# Altium footprint library switch.PcbLib: 44 footprints (part 2 of 3)
Each footprint in its own frame and in the unit in brackets; x right, y up, seen from the top. Pads: shape width x height; smd on the part's side, far side on the other; paste and mask are expansions set on the pad; w line width, h text height; cw(c..) or ccw(c..) is an arc to the next point about the centre after c.
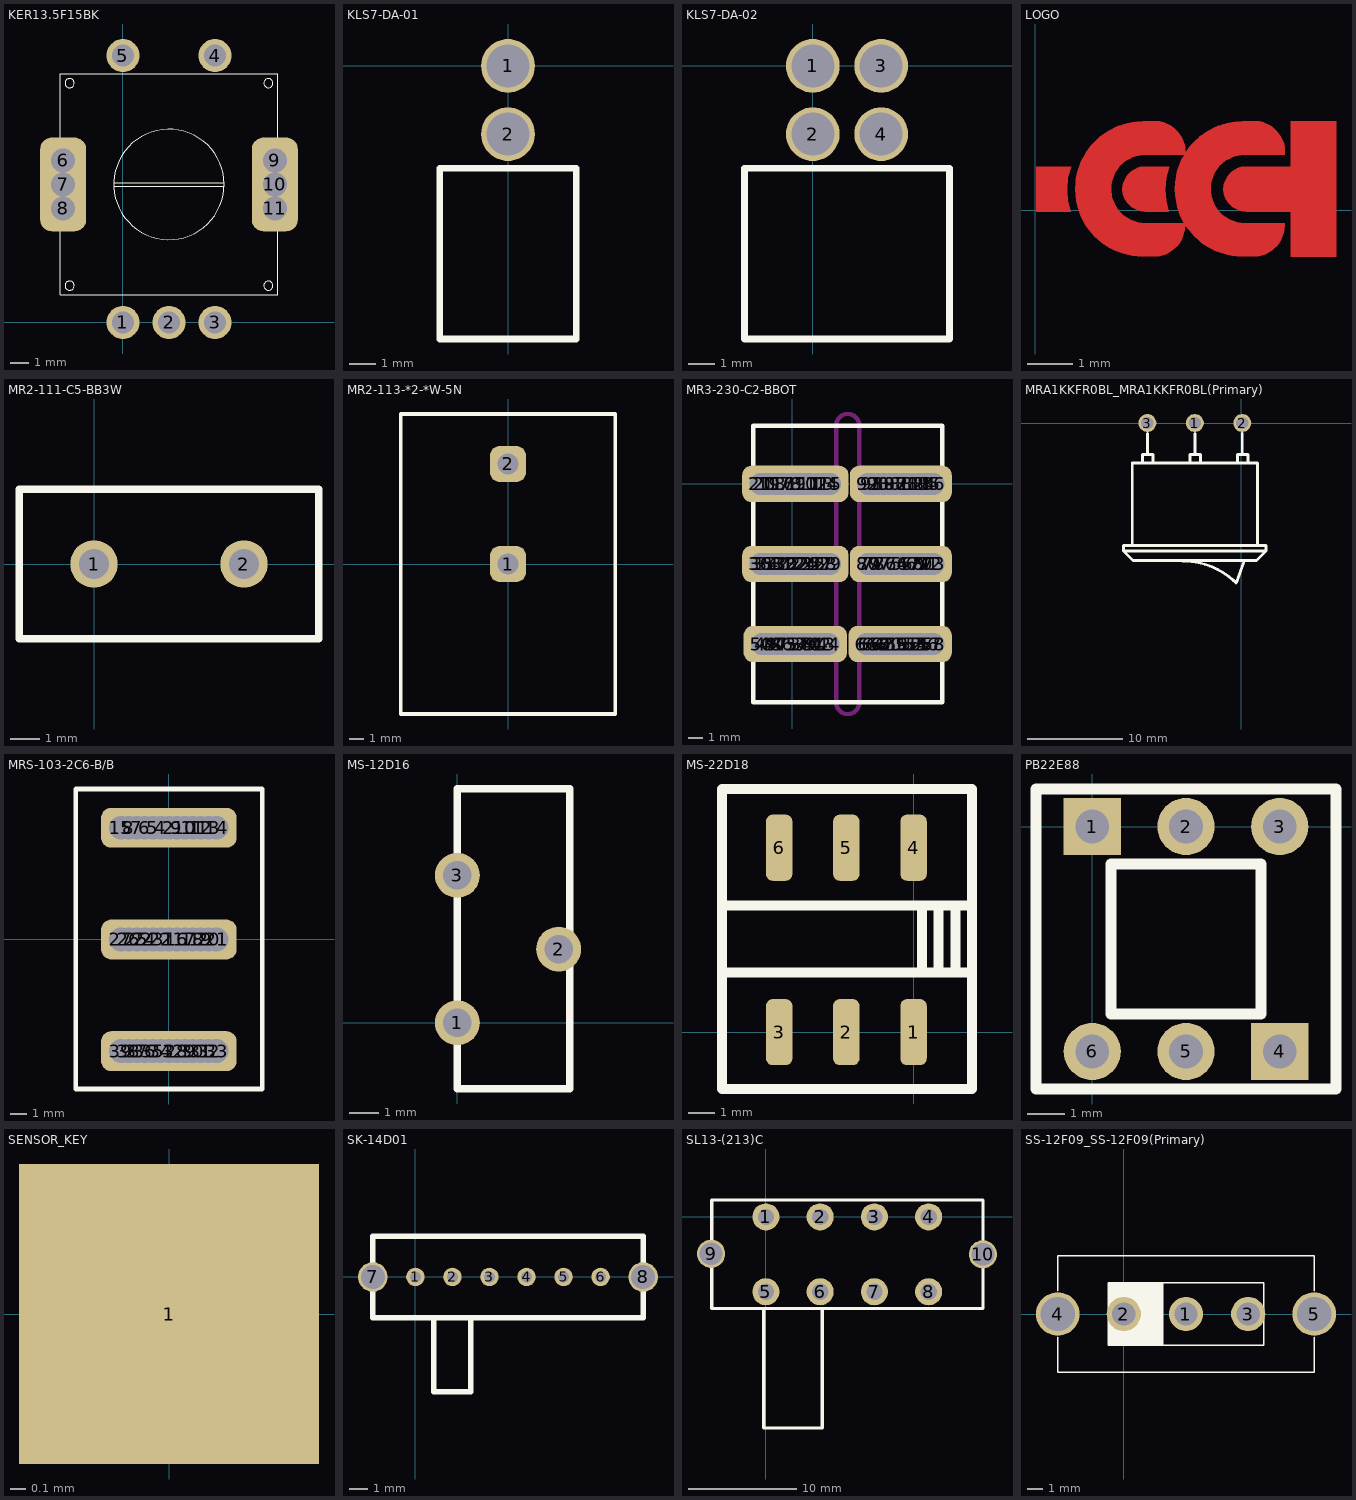
[diagram p1: the footprints below, top view; thin cyan lines are the x and y axes]

## KER13.5F15BK [mm]
pads (11):
  round 1.8 hole 1.2 unplated: 1(0,0) 2(2.5,0) 3(5,0) 4(5,14.5) 5(0,14.5)
  rrect50% 2.5x2.5 hole 1.3 unplated: 6(-3.25,8.8) 7(-3.25,7.5) 8(-3.25,6.2) 9(8.25,8.8) 10(8.25,7.5) 11(8.25,6.2)
Top Overlay:
  circle w0.025: c2.5,7.5 r3
  circle w0.025: c7.9,13 r0.25
  circle w0.025: c7.9,2 r0.25
  circle w0.025: c-2.9,13 r0.25
  circle w0.025: c-2.9,2 r0.25
  lines w0.025: -0.5,7.4 5.5,7.4 ; -0.5,7.6 5.5,7.6 ; -3.4,1.5 -3.4,7.5 -3.4,13.5 2.5,13.5 8.4,13.5 8.4,10.45 8.4,7.5 8.4,1.5 2.5,1.5 -3.4,1.5

## KLS7-DA-01 [mm]
pads (2):
  round 2 hole 1.6: 1(0,0) 2(0,-2.54)
Top Overlay:
  lines w0.254: -2.54,-10.16 -2.54,-3.81 2.54,-3.81 2.54,-10.16 -2.54,-10.16

## KLS7-DA-02 [mm]
pads (4):
  round 2 hole 1.6: 1(0,0) 2(0,-2.54) 3(2.54,0) 4(2.54,-2.54)
Top Overlay:
  lines w0.254: -2.54,-10.16 5.08,-10.16 5.08,-3.81 -2.54,-3.81 -2.54,-10.16

## LOGO [mm]
Top Layer:
  region: 0.795,0.967 0.255,0.967 0.155,0.967 0.085,0.967 0.015,0.967 0.015,0.717 0.015,0.707 0.015,0.457 0.015,0.017 0.015,-0.033 0.105,-0.033 0.185,-0.033 0.255,-0.033 0.785,-0.033 0.725,0.207 0.705,0.457 0.725,0.717
  region: 2.765,1.971 2.562,1.971 2.384,1.971 2.232,1.957 2.152,1.947 2.092,1.937 2.042,1.927 2.002,1.917 1.962,1.907 1.932,1.897 1.902,1.887 1.872,1.877 1.842,1.867 1.822,1.857 1.792,1.847 1.772,1.837 1.652,1.777 1.602,1.747 1.542,1.707 1.512,1.687 1.472,1.657 1.432,1.627 1.422,1.617 1.412,1.607 1.362,1.567 1.282,1.487 1.232,1.427 1.175,1.35 1.122,1.277 1.072,1.187 1.032,1.117 1.002,1.047 0.982,0.997 0.952,0.907 0.932,0.837 0.912,0.757 0.902,0.687 0.892,0.617 0.882,0.467 0.892,0.327 0.912,0.197 0.944,0.063 0.972,-0.033 1.01,-0.135 1.043,-0.201 1.122,-0.343 1.212,-0.463 1.312,-0.583 1.412,-0.673 1.482,-0.733 1.542,-0.773 1.622,-0.823 1.712,-0.873 1.772,-0.903 1.835,-0.927 1.934,-0.96 2.012,-0.983 2.052,-0.993 2.152,-1.013 2.264,-1.026 2.382,-1.033 2.689,-1.027 2.753,-1.027 2.842,-1.001 2.905,-0.976 2.956,-0.95 2.994,-0.925 3.032,-0.9 3.083,-0.861 3.159,-0.785 3.223,-0.696 3.248,-0.646 3.273,-0.595 3.286,-0.557 3.299,-0.506 3.311,-0.455 3.324,-0.29 2.435,-0.29 2.346,-0.277 2.27,-0.265 2.181,-0.239 2.118,-0.214 1.953,-0.112 1.851,-0.011 1.775,0.104 1.724,0.218 1.711,0.256 1.699,0.32 1.686,0.447 1.686,0.536 1.699,0.624 1.724,0.713 1.737,0.751 1.749,0.777 1.762,0.802 1.775,0.828 1.787,0.853 1.838,0.929 1.876,0.98 1.914,1.018 1.94,1.044 1.991,1.082 2.029,1.107 2.08,1.132 2.105,1.145 2.156,1.171 2.194,1.183 2.232,1.196 2.283,1.209 2.346,1.221 2.397,1.234 2.41,1.234 2.435,1.234 3.324,1.234 3.324,1.399 3.311,1.463 3.299,1.501 3.273,1.564 3.248,1.615 3.197,1.691 3.146,1.755 3.083,1.818 3.032,1.856 2.969,1.894 2.943,1.907 2.892,1.933 2.854,1.945
  region: 2.973,0.967 2.433,0.967 2.333,0.957 2.263,0.937 2.223,0.917 2.183,0.897 2.163,0.887 2.133,0.867 2.103,0.837 2.083,0.817 2.073,0.807 2.063,0.797 2.053,0.787 2.009,0.723 1.993,0.697 1.983,0.677 1.973,0.657 1.953,0.607 1.943,0.558 1.933,0.467 1.943,0.36 1.976,0.261 2.042,0.162 2.083,0.117 2.108,0.096 2.141,0.063 2.203,0.027 2.273,-0.003 2.343,-0.023 2.433,-0.033 2.963,-0.033 2.903,0.207 2.883,0.457 2.903,0.717
  region: 4.975,1.971 4.772,1.971 4.594,1.971 4.442,1.957 4.362,1.947 4.302,1.937 4.252,1.927 4.212,1.917 4.172,1.907 4.142,1.897 4.112,1.887 4.082,1.877 4.052,1.867 4.032,1.857 4.002,1.847 3.982,1.837 3.862,1.777 3.812,1.747 3.752,1.707 3.722,1.687 3.682,1.657 3.642,1.627 3.632,1.617 3.622,1.607 3.572,1.567 3.492,1.487 3.442,1.427 3.385,1.35 3.332,1.277 3.282,1.187 3.242,1.117 3.212,1.047 3.192,0.997 3.162,0.907 3.142,0.837 3.122,0.757 3.112,0.687 3.102,0.617 3.092,0.467 3.102,0.327 3.122,0.197 3.154,0.063 3.182,-0.033 3.22,-0.135 3.253,-0.201 3.332,-0.343 3.422,-0.463 3.522,-0.583 3.622,-0.673 3.692,-0.733 3.752,-0.773 3.832,-0.823 3.922,-0.873 3.982,-0.903 4.045,-0.927 4.144,-0.96 4.222,-0.983 4.262,-0.993 4.362,-1.013 4.474,-1.026 4.592,-1.033 4.899,-1.027 4.962,-1.027 5.051,-1.001 5.115,-0.976 5.166,-0.95 5.204,-0.925 5.242,-0.9 5.293,-0.861 5.369,-0.785 5.432,-0.696 5.458,-0.646 5.483,-0.595 5.496,-0.557 5.509,-0.506 5.521,-0.455 5.534,-0.29 4.645,-0.29 4.556,-0.277 4.48,-0.265 4.391,-0.239 4.327,-0.214 4.162,-0.112 4.061,-0.011 3.985,0.104 3.934,0.218 3.921,0.256 3.908,0.32 3.896,0.447 3.896,0.536 3.908,0.624 3.934,0.713 3.946,0.751 3.959,0.777 3.972,0.802 3.985,0.828 3.997,0.853 4.048,0.929 4.086,0.98 4.124,1.018 4.15,1.044 4.2,1.082 4.239,1.107 4.289,1.132 4.315,1.145 4.366,1.171 4.404,1.183 4.442,1.196 4.493,1.209 4.556,1.221 4.607,1.234 4.62,1.234 4.645,1.234 5.534,1.234 5.534,1.399 5.521,1.463 5.509,1.501 5.483,1.564 5.458,1.615 5.407,1.691 5.356,1.755 5.293,1.818 5.242,1.856 5.178,1.894 5.153,1.907 5.102,1.933 5.064,1.945
  region: 5.672,0.967 4.672,0.967 4.572,0.957 4.502,0.937 4.462,0.917 4.422,0.897 4.402,0.887 4.372,0.867 4.342,0.837 4.322,0.817 4.312,0.807 4.302,0.797 4.292,0.787 4.248,0.723 4.232,0.697 4.222,0.677 4.212,0.657 4.192,0.607 4.182,0.558 4.172,0.467 4.182,0.36 4.215,0.261 4.281,0.162 4.322,0.117 4.347,0.096 4.38,0.063 4.442,0.027 4.512,-0.003 4.582,-0.023 4.672,-0.033 5.672,-0.033 5.672,-1.033 6.672,-1.033 6.672,1.967 5.672,1.967

## MR2-111-C5-BB3W [mm]
pads (2):
  round 1.6 hole 1: 1(0,0) 2(5.08,0)
Top Overlay:
  lines w0.254: -2.54,-2.54 7.62,-2.54 7.62,2.54 -2.54,2.54 -2.54,-2.54

## MR2-113-*2-*W-5N [mm]
pads (2):
  rrect50% 2.5x2.5 hole 1.5: 1(0,0) 2(0,7)
Top Overlay:
  lines w0.254: -7.5,-10.5 7.5,-10.5 7.5,10.5 -7.5,10.5 -7.5,-10.5

## MR3-230-C2-BBOT [mm]
pads (92):
  rrect50% 2.5x2.5 hole 1.5: 1(0,0) 2(7.6,0) 3(0,-5.5) 4(7.6,-5.5) 5(0,-11) 6(7.6,-11) 7(-0.2,0) 8(0.3,0) 9(0.6,0) 10(0.9,0) 11(1.2,0) 12(1.7,0) 13(2.1,0) 14(2.4,0) 15(2.6,0) 16(-0.6,0) 17(-0.9,0) 18(-1.2,0) 19(-1.6,0) 20(-1.9,0) 21(-2.2,0) 22(0.3,-5.5) 23(0.6,-5.5) 24(0.9,-5.5) 25(1.2,-5.5) 26(1.5,-5.5) 27(2,-5.5) 28(2.3,-5.5) 29(2.6,-5.5) 30(-0.4,-5.5) 31(-0.7,-5.5) 32(-1,-5.5) 33(-1.3,-5.5) 34(-1.7,-5.5) 35(-2,-5.5) 36(-2.2,-5.5) 37(0.3,-11) 38(0.6,-11) 39(0.9,-11) 40(1.2,-11) 41(1.5,-11) 42(1.9,-11) 43(2.2,-11) 44(2.5,-11) 45(-0.4,-11) 46(-0.7,-11) 47(-1.1,-11) 48(-1.5,-11) 49(-1.8,-11) 50(-2.1,-11) 51(7.9,-11) 52(8.2,-11) 53(8.4,-11) 54(8.6,-11) 55(8.9,-11) 56(9.3,-11) 57(9.5,-11) 58(9.7,-11) 59(7.2,-11) 60(6.8,-11) 61(6.5,-11) 62(6.2,-11) 63(5.9,-11) 64(5.6,-11) 65(5.3,-11) 66(5.1,-11) 67(8,-5.5) 68(8.3,-5.5) 69(8.6,-5.5) 70(8.9,-5.5) 71(9.3,-5.5) 72(9.5,-5.5) 73(9.7,-5.5) 74(7.2,-5.5) 75(6.8,-5.5) 76(6.4,-5.5) 77(6,-5.5) 78(5.6,-5.5) 79(5.3,-5.5) 80(5.2,-5.5) 81(7.9,0) 82(8.3,0) 83(8.7,0) 84(9.1,0) 85(9.4,0) 86(9.7,0) 87(7.1,0) 88(6.7,0) 89(6.3,0) 90(5.9,0) 91(5.5,0) 92(5.2,0)
Top Overlay:
  lines w0.3: -2.7,-15 10.3,-15 10.3,4 -2.7,4 -2.7,-15
Keep-Out Layer:
  lines w0.3: 2.994,-15 ccw(c3.8,-15) 4.606,-15 ; 3,-15 3,4 cw(c3.8,4) 4.6,4 4.6,-15

## MRA1KKFR0BL_MRA1KKFR0BL(Primary) [mm]
pads (3):
  round 1.9 hole 1.3: 1(-4.9,0) 2(0.1,0) 3(-9.9,0)
Top Overlay:
  lines w0.3: -11.5,-12.9 -11.5,-4.2 1.7,-4.2 1.7,-12.9 ; -10.4,-4.2 -10.4,-3.3 -9.8,-3.3 ; -9.9,-1.1 -9.9,-3.3 -9.3,-3.3 -9.3,-4.2 ; -6.2,-14.538 cw(c-6.2,-22.6) -0.549,-16.85 ; -5.4,-4.2 -5.4,-3.3 -4.8,-3.3 ; -4.9,-1.1 -4.9,-3.3 -4.3,-3.3 -4.3,-4.2 ; -0.5,-16.8 0.3,-14.5 ; -0.4,-4.2 -0.4,-3.3 0.2,-3.3 ; 0.1,-1.1 0.1,-3.3 0.7,-3.3 0.7,-4.2 ; -12.4,-13.5 2.6,-13.5 ; -12.4,-13.5 -11.4,-14.5 1.6,-14.5 2.6,-13.5 ; -12.4,-13.5 -12.4,-12.9 2.6,-12.9 2.6,-13.5

## MRS-103-2C6-B/B [mm]
pads (39):
  rrect50% 2.5x2.5 hole 1.5: 1(0,0) 2(0,7) 3(0,-7) 4(-0.5,7) 5(-1,7) 6(-1.5,7) 7(-2,7) 8(-2.5,7) 9(0.5,7) 10(1,7) 11(1.5,7) 12(2,7) 13(2.5,7) 14(3,7) 15(-3,7) 16(0.5,0) 17(1,0) 18(1.5,0) 19(2,0) 20(2.5,0) 21(3,0) 22(-0.5,0) 23(-1,0) 24(-1.5,0) 25(-2,0) 26(-2.5,0) 27(-3,0) 28(0.5,-7) 29(1,-7) 30(1.5,-7) 31(2,-7) 32(2.5,-7) 33(3,-7) 34(-0.5,-7) 35(-1,-7) 36(-1.5,-7) 37(-2,-7) 38(-2.5,-7) 39(-3,-7)
Top Overlay:
  lines w0.3: -5.83,-9.37 5.85,-9.37 5.85,0.03 5.85,9.43 -5.83,9.43 -5.83,-9.37

## MS-12D16 [mil]
pads (3):
  round 60 hole 38: 1(0,0) 2(135.12,98.27) 3(0,196.54)
Top Overlay:
  lines w10: 0.16,-88.27 150.16,-88.27 150.16,311.73 0.16,311.73 0.16,-88.27

## MS-22D18 [mm]
pads (6):
  rrect50% 1x2.5 smd: 1(0,0) 2(-2.54,0) 3(-5.08,0) 4(0,6.97) 5(-2.54,6.97) 6(-5.08,6.97)
Top Overlay:
  lines w0.38: -7.24,2.26 2.21,2.26 ; -7.24,4.78 2.21,4.78 ; 0.32,2.26 0.32,4.78 ; 0.95,2.26 0.95,4.78 ; 1.58,2.26 1.58,4.78 ; -7.24,-2.15 2.21,-2.15 2.21,9.19 -7.24,9.19 -7.24,-2.15

## PB22E88 [mm]
pads (6):
  rect 1.524x1.524 hole 0.9: 1(0,0) 4(5,-6)
  round 1.524 hole 0.9: 2(2.5,0) 3(5,0) 5(2.5,-6) 6(0,-6)
Top Overlay:
  lines w0.3: -1.5,-7 6.5,-7 6.5,1 -1.5,1 ; -1.5,-7 -1.5,1 ; -1.5,-7 -1.5,1 ; 0.5,-5 0.5,-1 4.5,-1 4.5,-5 0.5,-5

## SENSOR_KEY [mm]
pads (1):
  rect 2x2 smd: 1(0,0)

## SK-14D01 [mm]
pads (8):
  round 1 hole 0.6: 1(0,0) 2(2,0) 3(4,0) 4(6,0) 5(8,0) 6(10,0)
  round 1.6 hole 1.3: 7(-2.3,0) 8(12.3,0)
Top Overlay:
  lines w0.3: 1,-2.2 1,-6.2 3,-6.2 3,-2.2 ; -2.3,-2.2 -2.3,2.2 12.3,2.2 12.3,-2.2 -2.3,-2.2

## SL13-(213)C [mm]
pads (10):
  round 2.5 hole 1.5: 1(0,0) 2(5,0) 3(10,0) 4(15,0) 5(0,-6.9) 6(5,-6.9) 7(10,-6.9) 8(15,-6.9)
  round 2.6 hole 2.1: 9(-5.05,-3.4) 10(20,-3.45)
Top Overlay:
  lines w0.3: -0.2,-8.45 -0.2,-19.45 5.2,-19.45 5.2,-8.45 ; -5,-8.45 20,-8.45 20,1.55 -5,1.55 -5,-8.45

## SS-12F09_SS-12F09(Primary) [mm]
pads (5):
  round 2.2 hole 1.5: 1(4,0) 2(0,0) 3(8,0)
  round 2.8 hole 2.2: 4(-4.25,0) 5(12.25,0)
Top Overlay:
  region: -1,-2 2.5,-2 2.5,2 -1,2
  lines w0.1: -4.25,-1.5 -4.25,-3.75 12.25,-3.75 12.25,-1.5 ; -4.25,1.5 -4.25,3.75 12.25,3.75 12.25,1.5 ; 2.5,-2 2.5,2 ; -1,-2 9,-2 9,2 -1,2 -1,-2